# Altium integrated library LAB_COATING COF_MACHINE.IntLib: 24 symbols
Pins are listed as number, name and electrical type; pins without a type are passive.

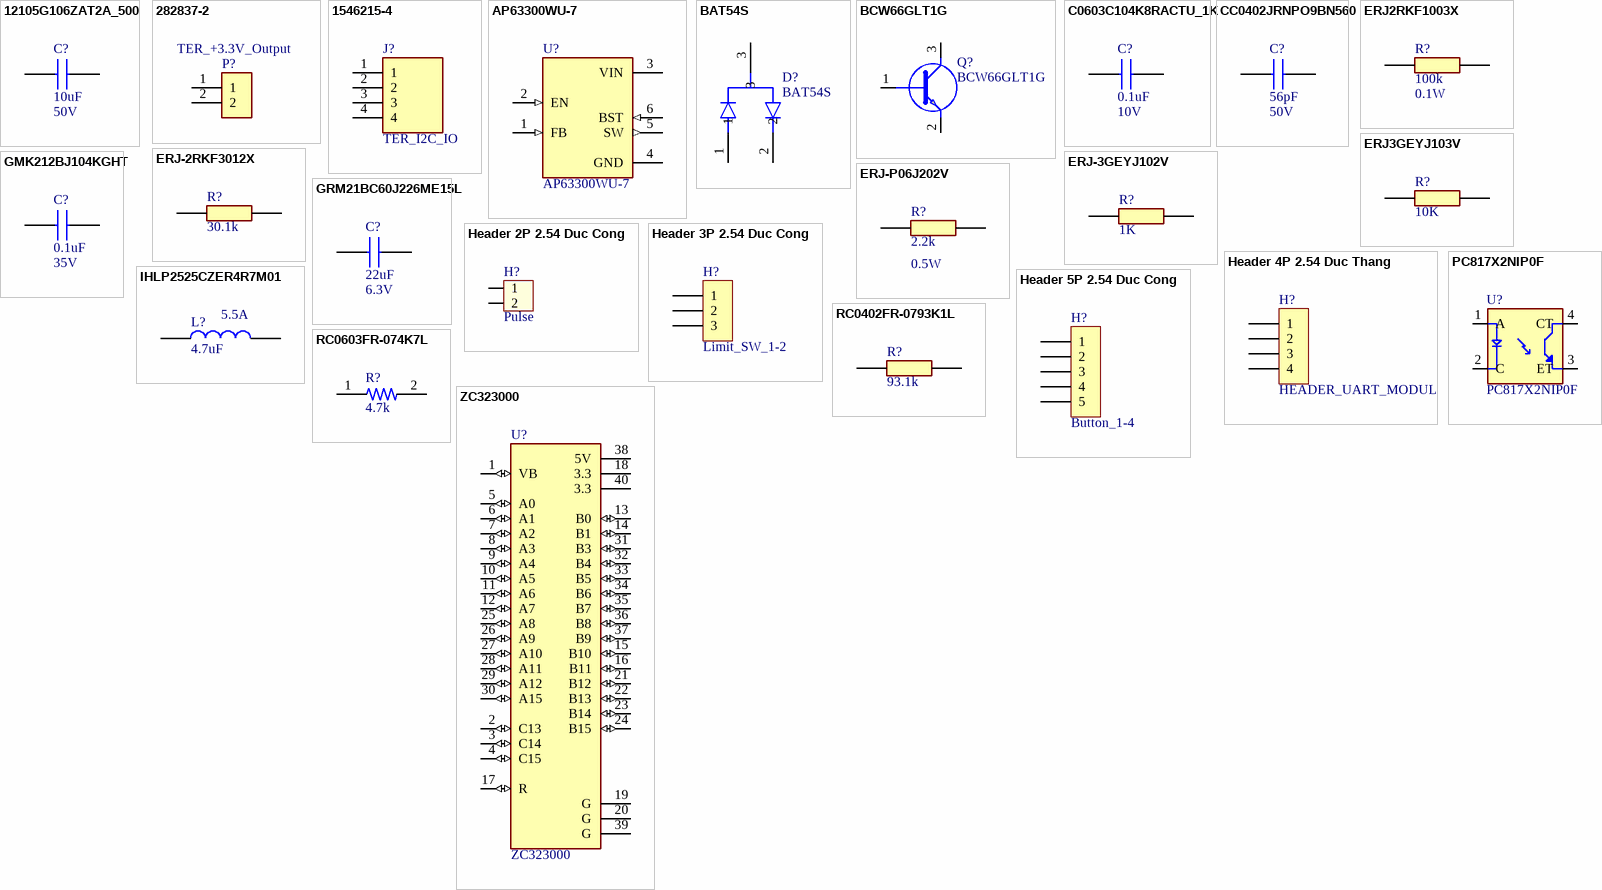
[diagram p0: symbols 12105G106ZAT2A_500 to ZC323000]

## 12105G106ZAT2A_500
designator C?, comment 10uF
CAP CER 10UF 50V Y5V 1210; Manufacturer_Name: AVX; Manufacturer_Part_Number: 12105G106ZAT2A/500; Geometry.Height: 2.9mm; Mouser Part Number: *; Mouser Price/Stock: *; Arrow Part Number: *; Arrow Price/Stock: *; Datasheet Link: http://datasheets.avx.com/Y5V.pdf
footprint CAPC3225X290N
pins: 1, 2
text: 50V

## 282837-2
designator P?  Comment_1: TER_+3.3V_Output  (hidden comment: 282837-2)
Connector Terminal Blocks Receptacle 2 Position 5.08mm Solder Straight Thru-Hole 13.5A/Contact; MF: TE Connectivity; Check_prices: https://www.snapeda.com/parts/282837-2/TE+Connectivity+AMP+Connectors/view-part/?ref=eda; Value: *; Availability: In Stock; MP: 282837-2; Price: None; Package: None; SnapEDA_Link: https://www.snapeda.com/parts/282837-2/TE+Connectivity+AMP+Connectors/view-part/?ref=snap; Purchase-URL: https://pricing.snapeda.com/search/part/282837-2/?ref=eda
footprint TE_282837-2
pins: 1, 2

## 1546215-4
designator J?, comment TER_I2C_IO
TERMI-BLOK PCB MOUNT, 90 4P.; Manufacturer_Name: TE Connectivity; Manufacturer_Part_Number: 1546215-4; Geometry.Height: 10.3mm; Mouser Part Number: 571-1546215-4; Mouser Price/Stock: https://www.mouser.co.uk/ProductDetail/TE-Connectivity/1546215-4?qs=Lxq28tKK6BPg3hwx4Yhqqw%3D%3D; Arrow Part Number: 1546215-4; Arrow Price/Stock: https://www.arrow.com/en/products/1546215-4/te-connectivity?region=nac; Datasheet Link: https://www.te.com/commerce/DocumentDelivery/DDEController?Action=srchrtrv&DocNm=1-1773458-1_EURO_STYLE_QRG&DocType=Data+Sheet&DocLang=English&PartCntxt=1546215-4&DocFormat=pdf
footprint 15462154
pins: 1, 2, 3, 4

## AP63300WU-7
designator U?
Buck Switching Regulator IC Positive Adjustable 0.8V 1 Output 3A SOT-23-6 Thin, TSOT-23-6; MF: Diodes Incorporated; SnapEDA_Link: https://www.snapeda.com/parts/AP63300WU-7/Diodes%20Inc./view-part/4221814/?ref=snap; Availability: Unavailable; MP: AP63300WU-7; DigiKey-Purchase-URL: https://snapeda.com/shop?store=DigiKey&id=4221814; Price: None; Value: *; Package: SOT-23-6 Diodes Incorporated
footprint SOT95P280X100-6N
pins: 1 FB (in), 2 EN (in), 3 VIN (power), 4 GND (power), 5 SW (out), 6 BST (in)

## BAT54S
designator D?
BAT54 Series 0.8 V 200 mA 30 V Max Reverse Voltage Schottky Diode - SOT-23-3; Package: None; MP: BAT54S; Value: *; Availability: Unavailable; Price: None
footprint SOT95P240X120-3N
pins: 1, 2, 3

## BCW66GLT1G
designator Q?
NPN Bipolar Transistor; Manufacturer_Name: onsemi; Geometry.Height: 1.11mm; Manufacturer_Part_Number: BCW66GLT1G; Mouser Part Number: 863-BCW66GLT1G; Mouser Price/Stock: https://www.mouser.co.uk/ProductDetail/onsemi/BCW66GLT1G?qs=R2UZ7gjkEjKs0bN2RlXbWw%3D%3D; Arrow Part Number: BCW66GLT1G; Arrow Price/Stock: https://www.arrow.com/en/products/bcw66glt1g/on-semiconductor?region=nac; Datasheet Link: http://www.onsemi.com/pub/Collateral/BCW66GLT1-D.PDF
footprint SOT95P237X111-3N
pins: 1 B, 2 E, 3 C

## C0603C104K8RACTU_1K
designator C?, comment 0.1uF
Multilayer Ceramic Capacitors MLCC - SMD/SMT; Manufacturer_Name: KEMET; Manufacturer_Part_Number: C0603C104K8RACTU/1K; Geometry.Height: 0.95mm; Mouser Part Number: N/A; Mouser Price/Stock: https://www.mouser.com/Search/Refine.aspx?Keyword=N%2FA; Arrow Part Number: *; Arrow Price/Stock: *; Datasheet Link: https://api.kemet.com/component-edge/download/specsheet/C0603C104K8RACTU.pdf
footprint CAPC1608X95N
pins: 1, 2
text: 10V

## CC0402JRNPO9BN560
designator C?, comment 56pF
Cap Ceramic 56pF 50V C0G 5% Pad SMD 0402 125C T/R; Manufacturer_Name: KEMET; Manufacturer_Part_Number: CC0402JRNPO9BN560; Geometry.Height: 0.55mm; Mouser Part Number: *; Mouser Price/Stock: *; Arrow Part Number: CC0402JRNPO9BN560; Arrow Price/Stock: https://www.arrow.com/en/products/cc0402jrnpo9bn560/yageo; Datasheet Link: https://www.yageo.com/upload/media/product/productsearch/datasheet/mlcc/UPY-GP_NP0_16V-to-50V_18.pdf
footprint CAPC1005X55N
pins: 1, 2
text: 50V

## ERJ2RKF1003X
designator R?, comment 100k
Panasonic ERJ2RK Series Thick Film Surface Mount Fixed Resistor 0402 Case +/-1% 0.1W +/-100ppm/C; Manufacturer_Part_Number: ERJ2RKF1003X; Geometry.Height: 0.4mm; Manufacturer_Name: Panasonic; Mouser Part Number: *; Mouser Price/Stock: *; Arrow Part Number: *; Arrow Price/Stock: *; Datasheet Link: http://docs-europe.electrocomponents.com/webdocs/13ba/0900766b813ba21b.pdf
footprint ERJ2RKD1004X
pins: 1, 2
text: 0.1W

## ERJ3GEYJ103V
designator R?, comment 10K
Thick Film Resistors - SMD 0603 10Kohms 5% AEC-Q200; Manufacturer_Name: Panasonic; Manufacturer_Part_Number: ERJ3GEYJ103V; Geometry.Height: 0.55mm; Mouser Part Number: 667-ERJ-3GEYJ103V; Mouser Price/Stock: http://www.mouser.com/Search/ProductDetail.aspx?qs=66DK8nO8gJBWgc%252b0VNNxzg%3d%3d; Arrow Part Number: *; Arrow Price/Stock: *; Datasheet Link: http://docs-europe.electrocomponents.com/webdocs/13ba/0900766b813ba21b.pdf
footprint ERJ3EKF1000V
pins: 1, 2

## ERJ-2RKF3012X
designator R?, comment 30.1k
Panasonic Surface Mount Fixed Resistor 30.1 k 0.1 W +/-100 ppm/C; Manufacturer_Part_Number: ERJ-2RKF3012X; Geometry.Height: 0.4mm; Manufacturer_Name: Panasonic; Mouser Part Number: 667-ERJ-2RKF3012X; Mouser Price/Stock: https://www.mouser.co.uk/ProductDetail/Panasonic/ERJ-2RKF3012X?qs=YMBIwoNQYdWdJYigM0pxkw%3D%3D; Arrow Part Number: *; Arrow Price/Stock: *; Datasheet Link: https://industrial.panasonic.com/cdbs/www-data/pdf/RDA0000/AOA0000C86.pdf
footprint ERJ2RKD1004X
pins: 1, 2

## ERJ-3GEYJ102V
designator R?, comment 1K
Thick Film Resistors - SMD 0603 1Kohms 5% AEC-Q200; Manufacturer_Name: Panasonic; Manufacturer_Part_Number: ERJ-3GEYJ102V; Geometry.Height: 0.55mm; Mouser Part Number: 667-ERJ-3GEYJ102V; Mouser Price/Stock: https://www.mouser.co.uk/ProductDetail/Panasonic/ERJ-3GEYJ102V?qs=66DK8nO8gJBFiTsClorqsA%3D%3D; Arrow Part Number: ERJ-3GEYJ102V; Arrow Price/Stock: https://www.arrow.com/en/products/erj-3geyj102v/panasonic?region=nac; Datasheet Link: http://docs-europe.electrocomponents.com/webdocs/13ba/0900766b813ba21b.pdf
footprint ERJ3EKF1000V
pins: 1, 2

## ERJ-P06J202V
designator R?, comment 2.2k
Thick Film Resistors - SMD 0805 2Kohms 0.5W 5% AEC-Q200; Manufacturer_Name: Panasonic; Manufacturer_Part_Number: ERJ-P06J202V; Geometry.Height: 0.7mm; Mouser Part Number: 667-ERJ-P06J202V; Mouser Price/Stock: https://www.mouser.co.uk/ProductDetail/Panasonic/ERJ-P06J202V/?qs=Zyl8A9hlmJqAy%252BsXwxGx%252BA%3D%3D; Arrow Part Number: ERJ-P06J202V; Arrow Price/Stock: https://www.arrow.com/en/products/erj-p06j202v/panasonic; Datasheet Link: http://industrial.panasonic.com/cdbs/www-data/pdf/RDA0000/AOA0000C102.pdf
footprint ERJP06D1000V
pins: 1, 2
text: 0.5W

## GMK212BJ104KGHT
designator C?, comment 0.1uF
CERAMIC CAPACITORS  [MLCC (High dielectric type) for Automotive (BODY & CHASSIS, INFOTAINMENT) Applications]  Multilayer Ceramic Capacitors MLCC - SMD/SMT 0.1uF 35V X5R +/-10% 0805 AEC-Q200; Manufacturer_Name: TAIYO YUDEN; Manufacturer_Part_Number: GMK212BJ104KGHT; Geometry.Height: 1.35mm; Mouser Part Number: 963-GMK212BJ104KGHT; Mouser Price/Stock: https://www.mouser.co.uk/ProductDetail/Taiyo-Yuden/GMK212BJ104KGHT?qs=CNQs48zzdnrsv%2FdZilYhjQ%3D%3D; Arrow Part Number: *; Arrow Price/Stock: *; Datasheet Link: https://datasheet.datasheetarchive.com/originals/distributors/Datasheets-DGA20/25674.pdf
footprint CAPC2012X135N
pins: 1, 2
text: 35V

## GRM21BC60J226ME15L
designator C?, comment 22uF
Multilayer Ceramic Capacitors MLCC - SMD/SMT SUGGESTED SMALLER ALTERNATIVE GRM188R60J226MEA0D; Manufacturer_Name: Murata Electronics; Manufacturer_Part_Number: GRM21BC60J226ME15L; Geometry.Height: 1.45mm; Mouser Part Number: 81-GRM21BC60J226ME5L; Mouser Price/Stock: https://www.mouser.co.uk/ProductDetail/Murata-Electronics/GRM21BC60J226ME15L?qs=eeBpzGFlv%252B9REoVGpR%2FjBw%3D%3D; Arrow Part Number: *; Arrow Price/Stock: *; Datasheet Link: http://www.murata.com/~/media/webrenewal/support/library/catalog/products/capacitor/mlcc/c02e.pdf
footprint CAPC2012X145N
pins: 1, 2
text: 6.3V

## Header 2P 2.54 Duc Cong
designator H?, comment Pulse
Cắm; Ten_Linh_Kien: Header 2P XH2.54-2P Đực Cong; Don_Vi: Con; Ma_Hang: MH002852; Chung_Loai: Cắm
footprint Header 2P DC 2.54
pins: 1, 2

## Header 3P 2.54 Duc Cong
designator H?, comment Limit_SW_1-2
Cắm; Ten_Linh_Kien: Header 3P XH2.54-3P Đực Cong; Don_Vi: Con; Ma_Hang: MH001302; Chung_Loai: Cắm
footprint Header 3P DC 2.54
pins: 1, 2, 3

## Header 4P 2.54 Duc Thang
designator H?, comment HEADER_UART_MODULE
Cắm; Ten_Linh_Kien: Header 4P XH2.54-4P Đực Thẳng; Don_Vi: Con; Ma_Hang: MH001285; Chung_Loai: Cắm
footprint XH2.54M-4
pins: 1, 2, 3, 4

## Header 5P 2.54 Duc Cong
designator H?, comment Button_1-4
Cắm; Ten_Linh_Kien: Header 5P XH2.54-5P Đực Cong; Don_Vi: Con; Ma_Hang: MH001308; Chung_Loai: Cắm
footprint Header 5P DC 2.54
pins: 1, 2, 3, 4, 5

## IHLP2525CZER4R7M01
designator L?, comment 4.7uF
Inductor IHLP SMD 2525 4.7uH Vishay IHLP2525CZ-01 Series Shielded Wire-wound SMD Inductor 4.7 uH +/-20% 5.5A Idc; Manufacturer_Part_Number: IHLP2525CZER4R7M01; Geometry.Height: 3mm; Manufacturer_Name: Vishay; Mouser Part Number: 70-IHLP2525CZER4R7M1; Mouser Price/Stock: https://www.mouser.co.uk/ProductDetail/Vishay-Dale/IHLP2525CZER4R7M01?qs=delkvkPykKkoRC4%2FTC3qyQ%3D%3D; Arrow Part Number: IHLP2525CZER4R7M01; Arrow Price/Stock: https://www.arrow.com/en/products/ihlp2525czer4r7m01/vishay?region=europe; Datasheet Link: https://componentsearchengine.com/Datasheets/2/IHLP2525CZER4R7M01.pdf
footprint INDM6965X300N
pins: 1, 2
text: 5.5A

## PC817X2NIP0F
designator U?
Optoisolator Transistor Output 5000Vrms 1 Channel 4-SMD; MF: Sharp Microelectronics; Value: *; SnapEDA_Link: https://www.snapeda.com/parts/PC817X2NIP0F/Sharp+Microelectronics/view-part/?ref=snap; Purchase-URL: https://pricing.snapeda.com/search/part/PC817X2NIP0F/?ref=eda; Check_prices: https://www.snapeda.com/parts/PC817X2NIP0F/Sharp+Microelectronics/view-part/?ref=eda; Digi-Key_Part_Number: 425-2192-2-ND; Package: SMD-4 Sharp; MP: PC817X2NIP0F
footprint SOT254P975X400-4N
pins: 1 A, 2 C, 3 ET, 4 CT

## RC0402FR-0793K1L
designator R?, comment 93.1k
Thick Film Resistors 93.1K OHM 1%; Manufacturer_Name: KEMET; Manufacturer_Part_Number: RC0402FR-0793K1L; Geometry.Height: 0.4mm; Mouser Part Number: 603-RC0402FR-0793K1L; Mouser Price/Stock: *; Arrow Part Number: *; Arrow Price/Stock: *; Datasheet Link: http://www.yageo.com/documents/recent/PYu-RC0402_51_RoHS_L_6_r.pdf
footprint RESC1005X40N
pins: 1, 2

## RC0603FR-074K7L
designator R?, comment 4.7k
4.7 kOhms Â±1% 0.1W, 1/10W Chip Resistor 0603 _1608 Metric_ Moisture Resistant Thick Film; MP: RC0603FR-074K7L; MF: Yageo; Value: *; SnapEDA_Link: https://www.snapeda.com/parts/RC0603FR-074K7L/Yageo/view-part/473520/?ref=snap; Availability: Unavailable; Price: None; Package: 0603 Yageo
footprint RESC1607X60N
pins: 1, 2

## ZC323000
designator U?
STM32F103C8T6 ARM STM32 Minimum System Development Board Module For Arduino; Package: None; MP: ZC323000; Value: *; Availability: Unavailable; Price: None
footprint MODULE_ZC323000
pins: 1 VB (io), 2 C13 (io), 3 C14 (io), 4 C15 (io), 5 A0 (io), 6 A1 (io), 7 A2 (io), 8 A3 (io), 9 A4 (io), 10 A5 (io), 11 A6 (io), 12 A7 (io), 13 B0 (io), 14 B1 (io), 15 B10 (io), 16 B11 (io), 17 R (io), 18 3.3 (power), 19 G (power), 20 G (power), 21 B12 (io), 22 B13 (io), 23 B14 (io), 24 B15 (io), 25 A8 (io), 26 A9 (io), 27 A10 (io), 28 A11 (io), 29 A12 (io), 30 A15 (io), 31 B3 (io), 32 B4 (io), 33 B5 (io), 34 B6 (io), 35 B7 (io), 36 B8 (io), 37 B9 (io), 38 5V (power), 39 G (power), 40 3.3 (power)